# EAGLE library part CY8CLED01D01 (library CypressLEDxx)
Cypress PowerPSoC Intelligent LED Driver Device: CY8CLED01D01
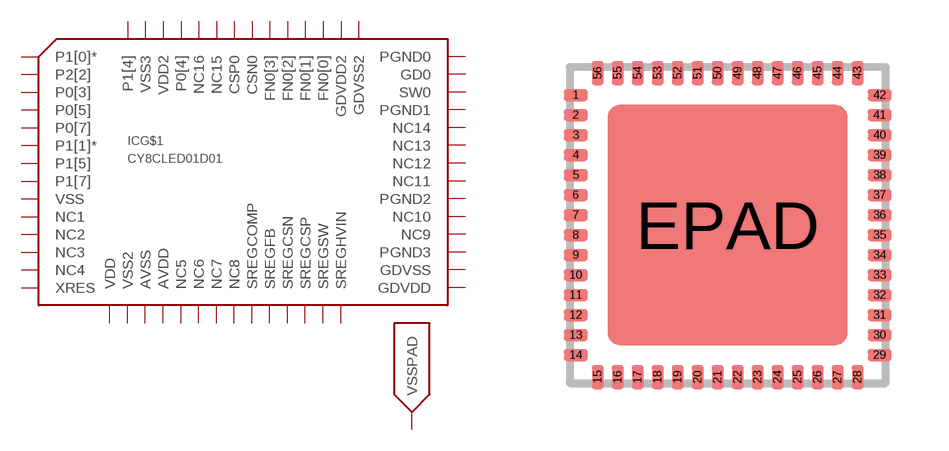
[diagram p6: symbol with the pads of QFN56; footprint QFN56]

Designator prefix IC; gates G$1=CY8CLED01D01 G$2=GNDPAD

## CY8CLED01D01QFN56  [QFN56]
1  G$1:P1[0]*
2  G$1:P2[2]
3  G$1:P0[3]
4  G$1:P0[5]
5  G$1:P0[7]
6  G$1:P1[1]*
7  G$1:P1[5]
8  G$1:P1[7]
9  G$1:VSS  pwr
10  G$1:NC1  nc
11  G$1:NC2  nc
12  G$1:NC3  nc
13  G$1:NC4  nc
14  G$1:XRES
15  G$1:VDD  pwr
16  G$1:VSS2  pwr
17  G$1:AVSS  pwr
18  G$1:AVDD  pwr
19  G$1:NC5
20  G$1:NC6
21  G$1:NC7  nc
22  G$1:NC8  nc
23  G$1:SREGCOMP
24  G$1:SREGFB
25  G$1:SREGCSN
26  G$1:SREGCSP
27  G$1:SREGSW
28  G$1:SREGHVIN
29  G$1:GDVDD  pwr
30  G$1:GDVSS  pwr
31  G$1:PGND3
32  G$1:NC9  nc
33  G$1:NC10  nc
34  G$1:PGND2
35  G$1:NC11  nc
36  G$1:NC12  nc
37  G$1:NC13  nc
38  G$1:NC14  nc
39  G$1:PGND1
40  G$1:SW0
41  G$1:GD0
42  G$1:PGND0
43  G$1:GDVSS2  pwr
44  G$1:GDVDD2  pwr
45  G$1:FN0[0]
46  G$1:FN0[1]
47  G$1:FN0[2]
48  G$1:FN0[3]
49  G$1:CSN0
50  G$1:CSP0
51  G$1:NC15  nc
52  G$1:NC16  nc
53  G$1:P0[4]
54  G$1:VDD2  pwr
55  G$1:VSS3  pwr
56  G$1:P1[4]
EPAD  G$2:VSSPAD  pwr

## Footprint QFN56 (pad centres in mm)
56-Lead QFN 8 x 8 mm LF56A Source: Source: http://www.cypress.com .. cy7c68013a_5.pdf
smd 0.6 x 0.3: 1 -3.8,3.25; 2 -3.8,2.75; 3 -3.8,2.25; 4 -3.8,1.75; 5 -3.8,1.25; 6 -3.8,0.75; 7 -3.8,0.25; 8 -3.8,-0.25; 9 -3.8,-0.75; 10 -3.8,-1.25; 11 -3.8,-1.75; 12 -3.8,-2.25; 13 -3.8,-2.75; 14 -3.8,-3.25; 29 3.8,-3.25; 30 3.8,-2.75; 31 3.8,-2.25; 32 3.8,-1.75; 33 3.8,-1.25; 34 3.8,-0.75; 35 3.8,-0.25; 36 3.8,0.25; 37 3.8,0.75; 38 3.8,1.25; 39 3.8,1.75; 40 3.8,2.25; 41 3.8,2.75; 42 3.8,3.25
smd 0.3 x 0.6: 15 -3.25,-3.8; 16 -2.75,-3.8; 17 -2.25,-3.8; 18 -1.75,-3.8; 19 -1.25,-3.8; 20 -0.75,-3.8; 21 -0.25,-3.8; 22 0.25,-3.8; 23 0.75,-3.8; 24 1.25,-3.8; 25 1.75,-3.8; 26 2.25,-3.8; 27 2.75,-3.8; 28 3.25,-3.8; 43 3.25,3.8; 44 2.75,3.8; 45 2.25,3.8; 46 1.75,3.8; 47 1.25,3.8; 48 0.75,3.8; 49 0.25,3.8; 50 -0.25,3.8; 51 -0.75,3.8; 52 -1.25,3.8; 53 -1.75,3.8; 54 -2.25,3.8; 55 -2.75,3.8; 56 -3.25,3.8
smd 6 x 6: EPAD 0,0